# Altium schematic symbol library JST SH Connector.SchLib: 1 symbol
Pins are listed as number, name and electrical type; pins without a type are passive.

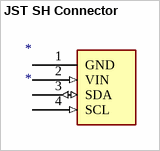
[diagram p0: symbol JST SH Connector]

## JST SH Connector
designator *
footprint JST SH Connector
pins: 1 GND (power), 2 VIN (in), 3 SDA (io), 4 SCL (in)